# EAGLE library part 691709710308 (library Eagle_WR-TBL Rising Cage Clamp (rev20a))
WR-TBL Serie 7097 - 5.00 mm Horizontal Entry SMT w. Pressure Clamp KIND PROPERTIES Pitch 3.5 mm MATERIAL PROPERTIES Insulator Material PA46 Insulator Flammability Rating UL94 V-0 Contact Material Brass Contact Plating Tin Terminal Screw Material Steel Terminal Screw Plating Zinc Wire Guard Material Stainless Steel GENERAL INFORMATION Operating Temperature -40 up to +130 °C Compliance Lead free / RoHS ELECTRICAL PROPERTIES IR cULus 6 A Working Voltage [cULus] 300 V (AC) Withstanding Voltage [cULus] 1600 V (AC) Contact Resistance [cULus] 20 mΩ MECHANICAL PROPERTIES Wire Strip Length 7 up to 8 (mm) Screw M3 Solid Wire Section (AWG) 14 to 30 (AWG) Solid Wire Section (Metric) 2.08 to 0.0509 (mm²) Stranded Wire Section (AWG) 14 to 30 (AWG) Stranded Wire Section (Metric) 2.08 to 0.0509 (mm²) CERTIFICATION cULus Approval E315414 PACKAGING PROPERTIES Packaging Tape and Reel with Cap <https://katalog.we-online.com/media/images/v2/o58289v209%20Family_WR-TBL_Serie_7097_6917097103xx.jpg> Details see: https://katalog.we-online.com/en/em/TBL_5_00_SMT_7097_HORIZONTAL_ENTRY_W_PRESSURE_CLAMP_69170971030X Updated by Ella Wu 2019-11-12 2019(C) Wurth Elektronik
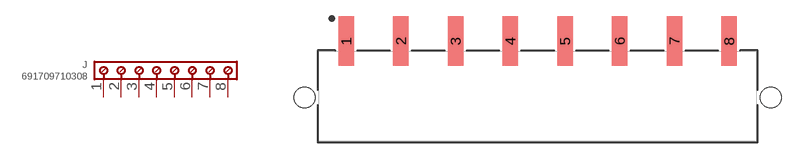
[diagram p53: symbol with the pads of 691709710308; footprint 691709710308]

Designator prefix J

## 691709710308 (DATASHEET-URL: https://www.we-online.com/catalog/datasheet/691709710308.pdf; IR-UL: 6A; MOUNT: THT; PART-NUMBER: 691709710308; PINS: 8; PITCH: 5mm; TYPE: Horizontal; WIRE: 14 to 30 (AWG) 2.08 to 0.0509 (mm²); WORKING-VOLTAGE-UL: 300V (AC))  [691709710308]
1  1  pas
2  2  pas
3  3  pas
4  4  pas
5  5  pas
6  6  pas
7  7  pas
8  8  pas

## Footprint 691709710308 (pad centres in mm)
WR-TBL Serie 7097 - 5.00 mm Horizontal Entry SMT w. Pressure Clamp Max Height =10.9mm , Pitch 5mm , 8 Pins
smd 1.4 x 4.5: 1 -17.5,5.15; 2 -12.5,5.15; 3 -7.5,5.15; 4 -2.5,5.15; 5 2.5,5.15; 6 7.5,5.15; 7 12.5,5.15; 8 17.5,5.15
hole 1.9 at -21.3,0
hole 1.9 at 21.3,0